# Altium schematic symbol library DC DC MOTNSUN.SchLib: 1 symbol
Pins are listed as number, name and electrical type; pins without a type are passive.

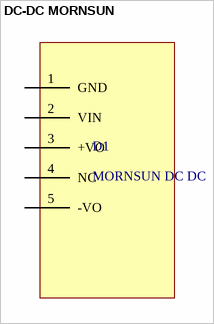
[diagram p0: symbol DC-DC MORNSUN]

## DC-DC MORNSUN
designator D1, comment MORNSUN DC DC
footprint DC DC MORNSUN
pins: 1 GND, 2 VIN, 3 +VO, 4 NC, 5 -VO